# Altium footprint library CPAV.PcbLib: 150 footprints (part 10 of 10)
Each footprint in its own frame and in the unit in brackets; x right, y up, seen from the top. Pads: shape width x height; smd on the part's side, far side on the other; paste and mask are expansions set on the pad; w line width, h text height; cw(c..) or ccw(c..) is an arc to the next point about the centre after c.
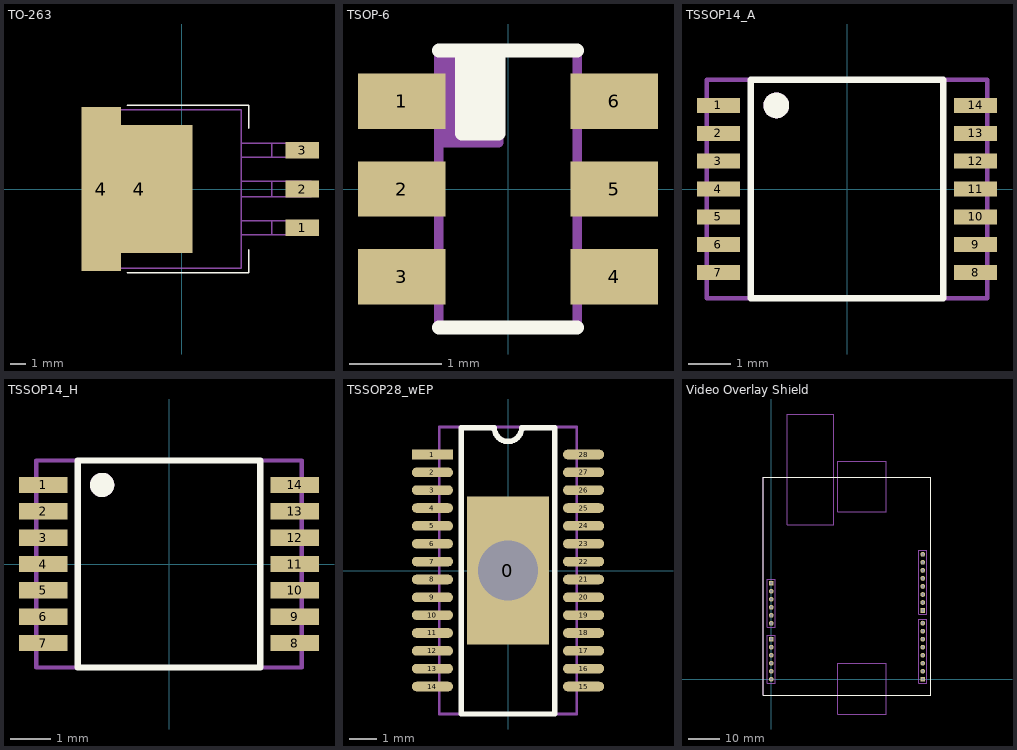
[diagram p9: the footprints below, top view; thin cyan lines are the x and y axes]

## TO-263 [mm]
pads (5):
  rect 2.2x1.1 smd: 1(7.9,-2.54) 2(7.9,0) 3(7.9,2.54)
  rect 2.6x10.8 smd: 4(-5.3,0)
  rect 7x8.4 smd: 4(-2.8,0)
Top Overlay:
  lines w0.1: -3.6,-5.5 4.4,-5.5 4.4,-4 ; -3.6,5.5 4.4,5.5 4.4,4
Mechanical 7:
  lines w0.1: -4.6,-5.2 -4.6,5.2 ; 5.9,-3 8.5,-3 8.5,-2.1 5.9,-2.1 ; 5.9,-3 5.9,-2.1 ; 5.9,-3 3.9,-3 3.9,-2.1 5.9,-2.1 ; 5.9,-0.5 8.5,-0.5 8.5,0.5 5.9,0.5 ; 5.9,-0.5 5.9,0.5 ; 5.9,-0.5 3.9,-0.5 3.9,0.5 5.9,0.5 ; 5.9,2.1 8.5,2.1 8.5,3 5.9,3 ; 5.9,2.1 5.9,3 ; 5.9,2.1 3.9,2.1 3.9,3 5.9,3 ; -6,-4.8 -6,4.8 -5.6,5.2 3.9,5.2 3.9,-5.2 -5.6,-5.2 -6,-4.8
Mechanical 10:
  text ".Comment" at 1.1,-6.7 h0.6
  text ".Designator" at 1,6 h0.8
3D body: height 1.3, standoff 0, extent -6,-5.2 -4.6,5.2
3D body: height 3, standoff 0.3, extent 3.9,-3 5.9,-2.1
3D body: height 3, standoff 0.3, extent 3.9,-0.5 5.9,0.5
3D body: height 3, standoff 0.3, extent 3.9,2.1 5.9,3
3D body: height 4.6, standoff 0.2, extent -4.6,-5.2 3.9,5.2
3D body: height 0.4, standoff 0, extent 5.9,-3 8.5,-2.1
3D body: height 0.4, standoff 0, extent 5.9,-0.5 8.5,0.5
3D body: height 0.4, standoff 0, extent 5.9,2.1 8.5,3

## TSOP-6 [mm]
height 1
pads (6):
  rect 0.95x0.6 smd mask+0: 1(-1.15,0.95) 2(-1.15,0) 3(-1.15,-0.95) 4(1.15,-0.95) 5(1.15,0) 6(1.15,0.95)
Top Overlay:
  rectangle: -0.5,0.6 -0.1,1.5
  lines w0.15: -0.75,-1.5 0.75,-1.5 ; -0.75,1.5 0.75,1.5 ; -0.5,1.5 -0.5,0.6 -0.1,0.6 -0.1,1.5
Mechanical 7:
  rectangle: -0.75,0.5 -0.1,1.5
  lines w0.1: -0.75,0.5 -0.1,0.5 -0.1,1.5 ; 0.7,1.5 -0.75,1.5 -0.75,-1.5 0.75,-1.5 0.75,1.5
Mechanical 10:
  text ".Comment" at -0.9,-2.1 h0.6
  text ".Designator" at -1.1,1.8 h0.8
3D body: height 1, standoff 0, extent -0.8,-1.5 0.8,1.5

## TSSOP14_A [mm]
height 1.1
pads (14):
  rect 1x0.35 smd: 1(-3,1.95) 2(-3,1.3) 3(-3,0.65) 4(-3,0) 5(-3,-0.65) 6(-3,-1.3) 7(-3,-1.95) 8(3,-1.95) 9(3,-1.3) 10(3,-0.65) 11(3,0) 12(3,0.65) 13(3,1.3) 14(3,1.95)
Top Overlay:
  circle w0.3: c-1.65,1.95 r0.15
  lines w0.15: -2.25,-2.55 2.25,-2.55 2.25,2.55 -2.25,2.55 -2.25,-2.55
Mechanical 7:
  circle w0.3: c-1.65,1.95 r0.15
  lines w0.1: -2.25,-2.55 -2.25,2.55 ; 2.25,-2.55 2.25,2.55 ; -3.275,-2.55 -3.275,2.55 3.275,2.55 3.275,-2.55 -3.275,-2.55
Mechanical 10:
  text ".Designator" at -1.2,2.925 h0.8
  text ".Comment" at -1,-3.175 h0.6
3D body: height 1.1, standoff 0, extent -2.25,-2.55 2.25,2.55
3D body: height 0.5, standoff 0, extent -3.275,-2.55 -2.25,2.55
3D body: height 0.5, standoff 0, extent 2.25,-2.55 3.275,2.55

## TSSOP14_H [mm]
height 1.1
pads (14):
  rect 1.2x0.4 smd: 1(-3.1,1.95) 2(-3.1,1.3) 3(-3.1,0.65) 4(-3.1,0) 5(-3.1,-0.65) 6(-3.1,-1.3) 7(-3.1,-1.95) 8(3.1,-1.95) 9(3.1,-1.3) 10(3.1,-0.65) 11(3.1,0) 12(3.1,0.65) 13(3.1,1.3) 14(3.1,1.95)
Top Overlay:
  circle w0.3: c-1.65,1.95 r0.15
  lines w0.15: -2.25,-2.55 -2.25,2.55 2.25,2.55 2.25,-2.55 -2.25,-2.55
Mechanical 7:
  circle w0.3: c-1.65,1.95 r0.15
  lines w0.1: -2.25,-2.55 -2.25,2.55 ; 2.25,-2.55 2.25,2.55 ; -3.275,-2.55 3.275,-2.55 3.275,2.55 -3.275,2.55 -3.275,-2.55
Mechanical 10:
  text ".Comment" at -1,-3.175 h0.6
  text ".Designator" at -1.2,2.925 h0.8
3D body: height 0.5, standoff 0, extent 2.25,-2.55 3.275,2.55
3D body: height 0.5, standoff 0, extent -3.275,-2.55 -2.25,2.55
3D body: height 1.1, standoff 0, extent -2.25,-2.55 2.25,2.55

## TSSOP28_wEP [mm] "TSSOP28_with_Exposed_Pad"
pads (29):
  rect 3x5.4 hole 2.2 mask+0.1: 0(0,0)
  rect 1.5x0.35 smd: 1(-2.75,4.225)
  oval 1.5x0.35 smd: 2(-2.75,3.575) 3(-2.75,2.925) 4(-2.75,2.275) 5(-2.75,1.625) 6(-2.75,0.975) 7(-2.75,0.325) 8(-2.75,-0.325) 9(-2.75,-0.975) 10(-2.75,-1.625) 11(-2.75,-2.275) 12(-2.75,-2.925) 13(-2.75,-3.575) 14(-2.75,-4.225) 15(2.75,-4.225) 16(2.75,-3.575) 17(2.75,-2.925) 18(2.75,-2.275) 19(2.75,-1.625) 20(2.75,-0.975) 21(2.75,-0.325) 22(2.75,0.325) 23(2.75,0.975) 24(2.75,1.625) 25(2.75,2.275) 26(2.75,2.925) 27(2.75,3.575) 28(2.75,4.225)
Top Overlay:
  lines w0.2: -1.7,-5.225 -1.7,5.2 -0.5,5.2 ccw(c0,5.2) 0.5,5.2 1.7,5.2 1.7,-5.225 -1.7,-5.225
Mechanical 7:
  lines w0.1: -2.5,-5.225 2.5,-5.225 2.5,5.225 -2.5,5.225 -2.5,-5.225
Mechanical 9:
  lines w0.1: -2.5,5.2 -2.5,-5.225 2.5,-5.225 2.5,5.225 -2.5,5.225
3D body: height 1.2, standoff 0.05, extent -2.5,-5.225 2.5,5.225

## Video Overlay Shield [mm]
pads (28):
  rect 1.5x1.5 hole 0.9: 1(0,30.4) 7(0,12.7) 13(48,0) 21(48,21.775)
  round 1.5 hole 0.9: 2(0,27.86) 3(0,25.32) 4(0,22.78) 5(0,20.24) 6(0,17.7) 8(0,10.16) 9(0,7.62) 10(0,5.08) 11(0,2.54) 12(0,0) 14(48,2.54) 15(48,5.08) 16(48,7.62) 17(48,10.16) 18(48,12.7) 19(48,15.24) 20(48,17.78) 22(48,24.315) 23(48,26.855) 24(48,29.395) 25(48,31.935) 26(48,34.475) 27(48,37.015) 28(48,39.555)
Top Overlay:
  lines w0.15: -2.5,-5 50.5,-5 50.5,64 -2.5,64 -2.5,-5
Mechanical 7:
  lines w0.1: -2.5,-5 -2.5,64 50.5,64 50.5,-5 -2.5,-5 ; -1.3,-1.2 1.3,-1.2 1.3,14 -1.3,14 -1.3,-1.2 ; -1.3,16.5 -1.3,31.7 1.3,31.7 1.3,16.5 -1.3,16.5 ; 5,49 19.8,49 19.8,84 5,84 5,49 ; 21,-11 21,5 36.5,5 36.5,-11 21,-11 ; 21,53 36.5,53 36.5,69 21,69 21,53 ; 46.7,-1.2 49.3,-1.2 49.3,19 46.7,19 46.7,-1.2 ; 46.7,20.575 49.3,20.575 49.3,40.9 46.7,40.9 46.7,20.575
3D body: height 11, standoff 3, extent 46.7,20.575 49.3,40.9
3D body: height 11, standoff 3, extent 46.7,-1.2 49.3,19
3D body: height 11, standoff 3, extent -1.3,-1.2 1.3,14
3D body: height 11, standoff 3, extent -1.3,16.5 1.3,31.7
3D body: height 3, standoff 1.5, extent -2.5,-5 50.5,64
3D body: height 15, standoff 3, extent 21,-11 36.5,5
3D body: height 15, standoff 3, extent 20.9,52.9 36.5,69
3D body: height 16, standoff 3, extent 4.9,49 19.8,84